# Altium schematic symbol library Transistores.SchLib: 35 symbols
Pins are listed as number, name and electrical type; pins without a type are passive.

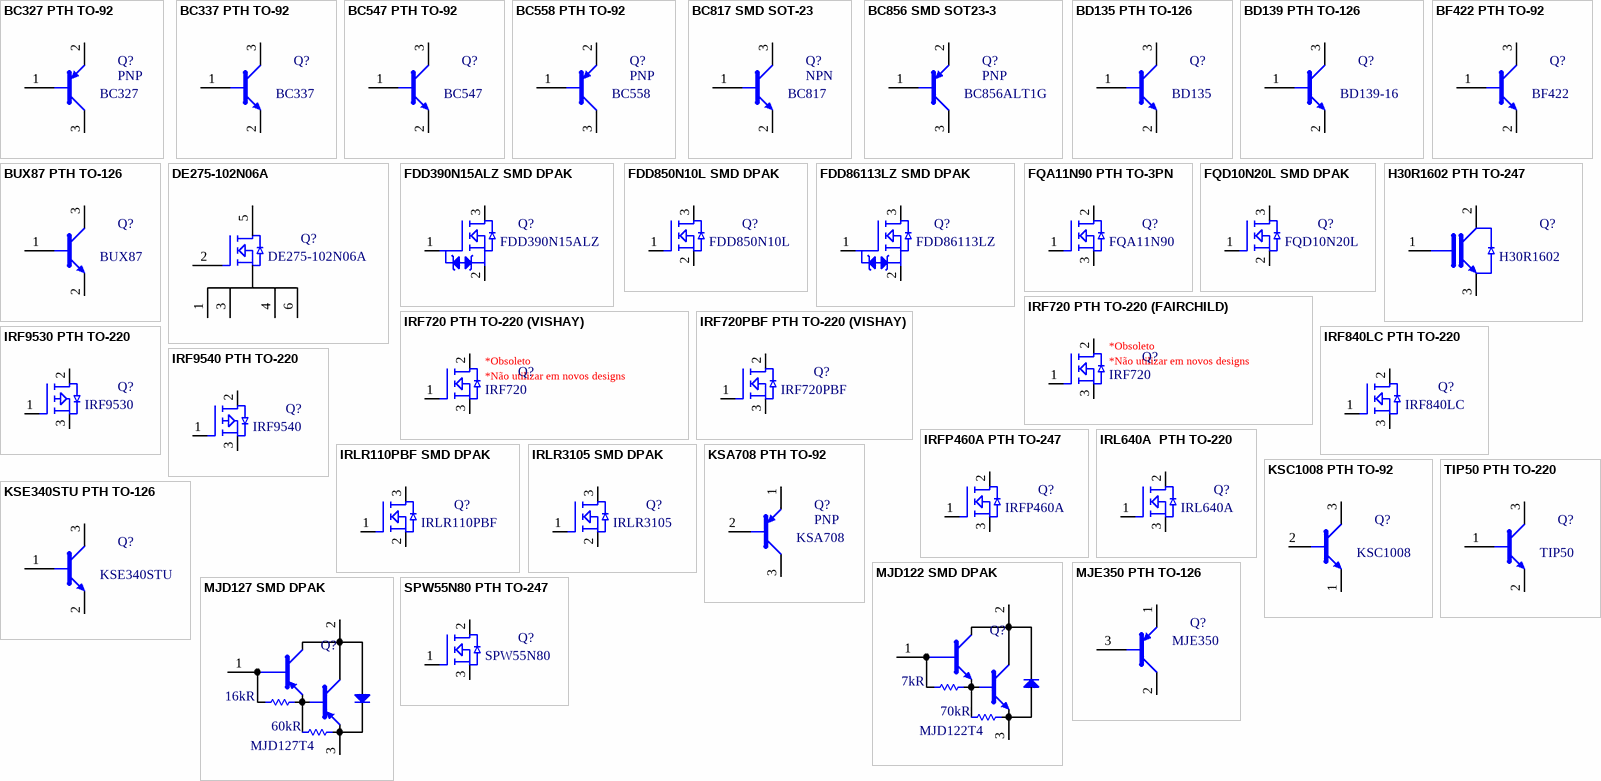
[diagram p0: symbols BC327 PTH TO-92 to TIP50 PTH TO-220]

## BC327 PTH TO-92
designator Q?, comment PNP  Valor/Partnumber: BC327
BC327 PTH PNP Transistor BJT; ComponentLinkDescription1: Datasheet; Montagem: PTH; ComponentLinkURL1: https://www.fairchildsemi.com/datasheets/BC/BC327.pdf
footprint TO-92A (TO, Flat Index; 3 In-Line, Axial Leads; Body Dia. 4.5mm; Leads 0.51 x 0.48 mm (max))
pins: 1 B, 2 E, 3 C

## BC337 PTH TO-92
designator Q?, comment Valor/Partnumber: BC337  (hidden comment: NPN)
BC337 PTH NPN Transistor BJT; ComponentLinkDescription1: Datasheet; Montagem: PTH; ComponentLinkURL1: https://www.fairchildsemi.com/datasheets/BC/BC337.pdf
footprint TO-92A (TO, Flat Index; 3 In-Line, Axial Leads; Body Dia. 4.5mm; Leads 0.51 x 0.48 mm (max))
pins: 1 B, 2 E, 3 C

## BC547 PTH TO-92
designator Q?, comment Valor/Partnumber: BC547  (hidden comment: NPN)
BC547 PTH NPN Transistor BJT; ComponentLinkDescription1: Datasheet; Montagem: PTH; ComponentLinkURL1: https://www.fairchildsemi.com/datasheets/BC/BC547.pdf
footprint TO-92A (TO, Flat Index; 3 In-Line, Axial Leads; Body Dia. 4.5mm; Leads 0.51 x 0.48 mm (max))
pins: 1 B, 2 E, 3 C

## BC558 PTH TO-92
designator Q?, comment PNP  Valor/Partnumber: BC558
BC558 PTH PNP Transistor BJT; ComponentLinkDescription1: Datasheet; Montagem: PTH; ComponentLinkURL1: https://www.fairchildsemi.com/datasheets/BC/BC557.pdf
footprint TO-92A (TO, Flat Index; 3 In-Line, Axial Leads; Body Dia. 4.5mm; Leads 0.51 x 0.48 mm (max))
pins: 1 B, 2 E, 3 C

## BC817 SMD SOT-23
designator Q?, comment NPN  Valor/Partnumber: BC817
BC817 SMD NPN Transistor BJT; ComponentLinkDescription1: Datasheet; Montagem: SMD; ComponentLinkURL1: http://www.nxp.com/documents/data_sheet/BC817_BC817W_BC337.pdf
footprint SOT-23
pins: 1 B, 2 E, 3 C

## BC856 SMD SOT23-3
designator Q?, comment PNP  Valor/Partnumber: BC856ALT1G
BC856 MD PNP Transistor BJT; Montagem: SMD; ComponentLinkDescription1: Datasheet; ComponentLinkURL1: https://www.onsemi.com/pub/Collateral/BC856ALT1-D.PDF
footprint SOT-23
pins: 1 B, 2 E, 3 C

## BD135 PTH TO-126
designator Q?, comment Valor/Partnumber: BD135  (hidden comment: NPN  low voltage transistor)
BD135 PTH NPN Transistor BJT; ComponentLinkDescription1: Datasheet; Montagem: PTH; ComponentLinkURL1: http://www.mouser.com/ds/2/389/CD00001225-251148.pdf
footprint TO-126_BJT
pins: 1 B, 2 E, 3 C

## BD139 PTH TO-126
designator Q?, comment Valor/Partnumber: BD139-16  (hidden comment: SMD NPN Transistor (BJT))
BD139 PTH NPN Transistor BJT; ComponentLinkDescription1: Datasheet; Montagem: PTH; ComponentLinkURL1: http://www.mouser.com/ds/2/389/CD00001225-251148.pdf
footprint TO-126_BJT
pins: 1 B, 2 E, 3 C

## BF422 PTH TO-92
designator Q?, comment Valor/Partnumber: BF422  (hidden comment: NPN)
BF422 PTH NPN Transistor BJT; ComponentLinkDescription1: Datasheet; Montagem: PTH; ComponentLinkURL1: http://www.nxp.com/documents/data_sheet/BF420_422.pdf
footprint TO-92A (TO, Flat Index; 3 In-Line, Axial Leads; Body Dia. 4.5mm; Leads 0.51 x 0.48 mm (max))
pins: 1 B, 2 E, 3 C

## BUX87 PTH TO-126
designator Q?, comment Valor/Partnumber: BUX87  (hidden comment: NPN TO-126(SOT-32))
BUX87 PTH NPN Transistor BJT; ComponentLinkDescription1: Datasheet; Montagem: PTH; ComponentLinkURL1: http://www.st.com/web/en/resource/technical/document/datasheet/CD00000998.pdf
footprint TO-126_BJT
pins: 1 B, 2 E, 3 C

## DE275-102N06A
designator Q?
Montagem: SMD; ComponentLinkDescription1: Datasheet; ComponentLinkURL1: *; Valor/Partnumber: DE275-102N06A
footprint DE_series
pins: 1 S, 2 G, 3 S, 4 S, 5 D, 6 S

## FDD390N15ALZ SMD DPAK
designator Q?, comment Valor/Partnumber: FDD390N15ALZ  (hidden comment: Canal-N)
FDD390N15ALZ SMD Canal-N Transistor (MOSFET); ComponentLinkDescription1: Datasheet; Montagem: SMD; ComponentLinkURL1: https://www.fairchildsemi.com/datasheets/FD/FDD390N15ALZ.pdf
footprint DPAK
pins: 1 G, 2 S, 3 D

## FDD850N10L SMD DPAK
designator Q?, comment Valor/Partnumber: FDD850N10L  (hidden comment: Canal-N)
FDD850N10L SMD Canal-N Transistor (MOSFET); ComponentLinkDescription1: Datasheet; Montagem: SMD; ComponentLinkURL1: https://www.fairchildsemi.com/datasheets/FD/FDD850N10L.pdf
footprint DPAK
pins: 1 G, 2 S, 3 D

## FDD86113LZ SMD DPAK
designator Q?, comment Valor/Partnumber: FDD86113LZ  (hidden comment: Canal-N)
FDD86113LZ SMD Canal-N Transistor (MOSFET); ComponentLinkDescription1: Datasheet; Montagem: SMD; ComponentLinkURL1: https://www.fairchildsemi.com/datasheets/FD/FDD86113LZ.pdf
footprint DPAK
pins: 1 G, 2 S, 3 D

## FQA11N90 PTH TO-3PN
designator Q?, comment Valor/Partnumber: FQA11N90  (hidden comment: Canal-N)
FQA11N90 PTH Canal-N Transistor (Power MOSFET); ComponentLinkDescription1: Datasheet; Montagem: PTH; ComponentLinkURL1: https://www.fairchildsemi.com/datasheets/FQ/FQA11N90_F109.pdf
footprint TO-3PN (TO, Thru-Hole, Vertical, 3 In-Line Leads; Pitch 2.54 mm)
pins: 1 G, 2 D, 3 S

## FQD10N20L SMD DPAK
designator Q?, comment Valor/Partnumber: FQD10N20L  (hidden comment: Canal-N)
FQD10N20L SMD Canal-N Transistor (MOSFET); ComponentLinkDescription1: Datasheet; Montagem: SMD; ComponentLinkURL1: https://www.fairchildsemi.com/datasheets/FQ/FQD10N20L.pdf
footprint DPAK
pins: 1 G, 2 S, 3 D

## H30R1602 PTH TO-247
designator Q?, comment IGBT  (value not drawn)
H30R1602; Montagem: PTH; ComponentLinkDescription1: Datasheet; ComponentLinkURL1: http://www.infineon.com/dgdl/Infineon-IHW30N160R2-DS-v02_01-en.pdf?fileId=db3a304412b407950112b428c03e3e69; Valor/Partnumber: H30R1602
footprint TO-247ACHInvertido
pins: 1 G, 2 C, 3 E

## IRF720 PTH TO-220 (FAIRCHILD)
designator Q?, comment Valor/Partnumber: IRF720  (hidden comment: Canal-N)
IRF720 PTH Canal-N Transistor (Power MOSFET); ComponentLinkDescription1: Datasheet; Montagem: PTH
footprint TO-220 (TO, Thru-Hole, Vertical, Heatsink Mounted; 3 In-Line Leads; Pitch 2.54 mm)
pins: 1 G, 2 D, 3 S
text: *Obsoleto; *Não utilizar em novos designs

## IRF720 PTH TO-220 (VISHAY)
designator Q?, comment Valor/Partnumber: IRF720  (hidden comment: Canal-N)
IRF720 PTH Canal-N Transistor (Power MOSFET); ComponentLinkDescription1: Datasheet; Montagem: PTH; ComponentLinkURL1: http://www.vishay.com/docs/91043/sihf720.pdf
footprint TO-220 (TO, Thru-Hole, Vertical, Heatsink Mounted; 3 In-Line Leads; Pitch 2.54 mm)
pins: 1 G, 2 D, 3 S
text: *Obsoleto; *Não utilizar em novos designs

## IRF720PBF PTH TO-220 (VISHAY)
designator Q?, comment Valor/Partnumber: IRF720PBF  (hidden comment: Canal-N)
IRF720PBF PTH Canal-N Transistor (Power MOSFET); ComponentLinkDescription1: Datasheet; Montagem: PTH; ComponentLinkURL1: http://www.mouser.com/ds/2/427/sihf720-106616.pdf
footprint TO-220 (TO, Thru-Hole, Vertical, Heatsink Mounted; 3 In-Line Leads; Pitch 2.54 mm)
pins: 1 G, 2 D, 3 S

## IRF840LC PTH TO-220
designator Q?, comment Valor/Partnumber: IRF840LC  (hidden comment: Canal-N)
IRF840LC PTH Canal-N Transistor (Power MOSFET); ComponentLinkDescription1: Datasheet; Montagem: PTH; ComponentLinkURL1: http://www.vishay.com/docs/91067/91067.pdf
footprint TO-220 (TO, Thru-Hole, Vertical, Heatsink Mounted; 3 In-Line Leads; Pitch 2.54 mm)
pins: 1 G, 2 D, 3 S

## IRF9530 PTH TO-220
designator Q?, comment Valor/Partnumber: IRF9530  (hidden comment: Canal-P)
IRF9530 PTH Canal-P Transistor (Power MOSFET); ComponentLinkDescription1: Datasheet; Montagem: PTH; ComponentLinkURL1: http://www.irf.com/product-info/datasheets/data/irf9530n.pdf
footprint TO-220 (TO, Thru-Hole, Vertical, Heatsink Mounted; 3 In-Line Leads; Pitch 2.54 mm)
pins: 1 G, 2 S, 3 D

## IRF9540 PTH TO-220
designator Q?, comment Valor/Partnumber: IRF9540  (hidden comment: Canal-P)
IRF9540 PTH Canal-P Transistor (Power MOSFET); ComponentLinkDescription1: Datasheet; Montagem: PTH; ComponentLinkURL1: http://www.irf.com/product-info/datasheets/data/irf9540n.pdf
footprint TO-220 (TO, Thru-Hole, Vertical, Heatsink Mounted; 3 In-Line Leads; Pitch 2.54 mm)
pins: 1 G, 2 S, 3 D

## IRFP460A PTH TO-247
designator Q?, comment Valor/Partnumber: IRFP460A  (hidden comment: Canal-N)
IRFP460A  PTH Canal-N Transistor (Power MOSFET); ComponentLinkDescription1: Datasheet; Montagem: PTH; ComponentLinkURL1: http://www.irf.com/product-info/datasheets/data/irfp460a.pdf
footprint TO-247AC (SIP with Mounting Hole; 3 Leads; Body 20 x 15.6 x 5 mm (typ); Pitch 5.45 mm)
footprint TO-247ACH
footprint TO-247ACHInvertido
pins: 1 G, 2 D, 3 S

## IRL640A  PTH TO-220
designator Q?, comment Valor/Partnumber: IRL640A  (hidden comment: Canal-N)
IRL640A  PTH Canal-N Transistor (Power MOSFET); ComponentLinkDescription1: Datasheet; Montagem: PTH; ComponentLinkURL1: https://www.fairchildsemi.com/datasheets/IR/IRL640A.pdf
footprint TO-220 (TO, Thru-Hole, Vertical, Heatsink Mounted; 3 In-Line Leads; Pitch 2.54 mm)
pins: 1 G, 2 D, 3 S

## IRLR110PBF SMD DPAK
designator Q?, comment Valor/Partnumber: IRLR110PBF  (hidden comment: Canal-N)
IRLR110PBF SMD Canal-N Transistor (MOSFET); ComponentLinkDescription1: Datasheet; Montagem: SMD; ComponentLinkURL1: http://www.vishay.com/docs/91323/91323.pdf
footprint DPAK
pins: 1 G, 2 S, 3 D

## IRLR3105 SMD DPAK
designator Q?, comment Valor/Partnumber: IRLR3105  (hidden comment: Canal-N)
IRLR3105 SMD Canal-N Transistor (MOSFET); ComponentLinkDescription1: Datasheet; Montagem: SMD; ComponentLinkURL1: http://www.irf.com/product-info/datasheets/data/irlr3105.pdf
footprint DPAK
pins: 1 G, 2 S, 3 D

## KSA708 PTH TO-92
designator Q?, comment PNP  Valor/Partnumber: KSA708
KSA708 PTH PNP Transistor BJT; ComponentLinkDescription1: Datasheet; Montagem: PTH; ComponentLinkURL1: https://www.fairchildsemi.com/datasheets/KS/KSA708.pdf
footprint TO-92
pins: 1 E, 2 B, 3 C

## KSC1008 PTH TO-92
designator Q?, comment Valor/Partnumber: KSC1008  (hidden comment: NPN)
KSC1008 PTH NPN Transistor BJT; ComponentLinkDescription1: Datasheet; Montagem: PTH; ComponentLinkURL1: http://www.mouser.com/ds/2/149/KSC1008-88452.pdf
footprint TO-92
pins: 1 E, 2 B, 3 C

## KSE340STU PTH TO-126
designator Q?, comment Valor/Partnumber: KSE340STU  (hidden comment: NPN Transistor (BJT))
KSE340STU PTH NPN Transistor BJT; ComponentLinkDescription1: Datasheet; Montagem: PTH; ComponentLinkURL1: https://www.fairchildsemi.com/datasheets/KS/KSE340.pdf
footprint TO-126_BJT
pins: 1 B, 2 E, 3 C

## MJD122 SMD DPAK
designator Q?, comment Valor/Partnumber: MJD122T4  (hidden comment: Darlington NPN)
MJD122 SMD NPN Complementary power Darlington transistors; ComponentLinkDescription1: Datasheet; Montagem: SMD; ComponentLinkURL1: http://www.st.com/web/en/resource/technical/document/datasheet/CD00000829.pdf
footprint DPAK-2
pins: 1 B, 2 C, 3 E
text: 7kR; 70kR

## MJD127 SMD DPAK
designator Q?, comment Valor/Partnumber: MJD127T4  (hidden comment: Darlington PNP)
MJD127 SMD PNP Complementary power Darlington transistors; ComponentLinkDescription1: Datasheet; Montagem: SMD; ComponentLinkURL1: http://www.st.com/web/en/resource/technical/document/datasheet/CD00000829.pdf
footprint DPAK-2
pins: 1 B, 2 C, 3 E
text: 16kR; 60kR

## MJE350 PTH TO-126
designator Q?, comment Valor/Partnumber: MJE350  (hidden comment: PNP)
MJE350 PTH PNP Transistor BJT; ComponentLinkDescription1: Datasheet; Montagem: PTH; ComponentLinkURL1: https://www.fairchildsemi.com/datasheets/MJ/MJE350.pdf
footprint TO-126_BJT
pins: 1 B, 2 E, 3 C

## SPW55N80 PTH TO-247
designator Q?, comment Valor/Partnumber: SPW55N80  (hidden comment: Canal-N)
SPW55N80 PTH Canal-N Transistor (Power MOSFET); ComponentLinkDescription1: Datasheet; Montagem: PTH; ComponentLinkURL1: http://www.mouser.com/ds/2/196/SPW55N80C3_2_0-359787.pdf
footprint TO-247AC (SIP with Mounting Hole; 3 Leads; Body 20 x 15.6 x 5 mm (typ); Pitch 5.45 mm)
pins: 1 G, 2 D, 3 S

## TIP50 PTH TO-220
designator Q?, comment Valor/Partnumber: TIP50  (hidden comment: NPN)
TIP50 PTH NPN Transistor BJT; ComponentLinkDescription1: Datasheet; Montagem: PTH; ComponentLinkURL1: https://www.fairchildsemi.com/datasheets/TI/TIP50.pdf
footprint TO-220 (TO, Thru-Hole, Vertical, Heatsink Mounted; 3 In-Line Leads; Pitch 2.54 mm)
pins: 1 B, 2 E, 3 C